# Altium integrated library jump.IntLib: 1 symbol
Pins are listed as number, name and electrical type; pins without a type are passive.

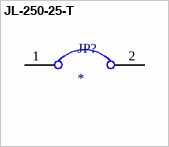
[diagram p0: symbol JL-250-25-T]

## JL-250-25-T
designator JP?
JL Series .100 Jumper Link; MF: Samtec; MP: JL-250-25-T; SnapEDA_Link: https://www.snapeda.com/parts/JL-250-25-T/Samtec/view-part/?ref=snap; Package: None; Value: *; Check_prices: https://www.snapeda.com/parts/JL-250-25-T/Samtec/view-part/?ref=eda
footprint SAMTEC_JL-250-25-T
pins: 1, 2